# EAGLE library part SIA431DJ (library vishay)
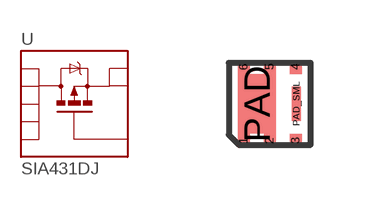
[diagram p0: symbol with the pads of POWERPAK_SC70-6L-SINGLE; footprint POWERPAK_SC70-6L-SINGLE]

Designator prefix -

## SIA431DJ  [POWERPAK_SC70-6L-SINGLE]
1  D1  pas
2  D2  pas
3  G  pas
4  S1  pas
5  D3  pas
6  D4  pas
PAD  D  pas
PAD_SML  S  pas

## Footprint POWERPAK_SC70-6L-SINGLE (pad centres in mm)
smd 0.3 x 0.35: 1 -0.65,-0.925; 2 0,-0.925; 3 0.65,-0.925; 4 0.65,0.925; 5 0,0.925; 6 -0.65,0.925
smd 0.95 x 1.495: PAD -0.325,0
smd 0.235 x 0.87: PAD_SML 0.667,0